# Altium schematic symbol library SCH - POWER - SWITCHMODE - TI LM26484SQ_1.SchLib: 1 symbol
Pins are listed as number, name and electrical type; pins without a type are passive.

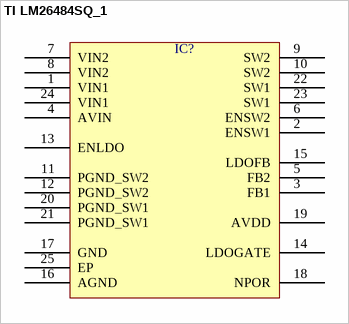
[diagram p0: symbol TI LM26484SQ_1]

## TI LM26484SQ_1
designator IC?  (value not drawn)
pins: 1 VIN1, 2 ENSW1, 3 FB1, 4 AVIN, 5 FB2, 6 ENSW2, 7 VIN2, 8 VIN2, 9 SW2, 10 SW2, 11 PGND_SW2, 12 PGND_SW2, 13 ENLDO, 14 LDOGATE, 15 LDOFB, 16 AGND, 17 GND, 18 NPOR, 19 AVDD, 20 PGND_SW1, 21 PGND_SW1, 22 SW1, 23 SW1, 24 VIN1, 25 EP